# Altium schematic symbol library Schlib.SchLib: 34 symbols
Pins are listed as number, name and electrical type; pins without a type are passive.

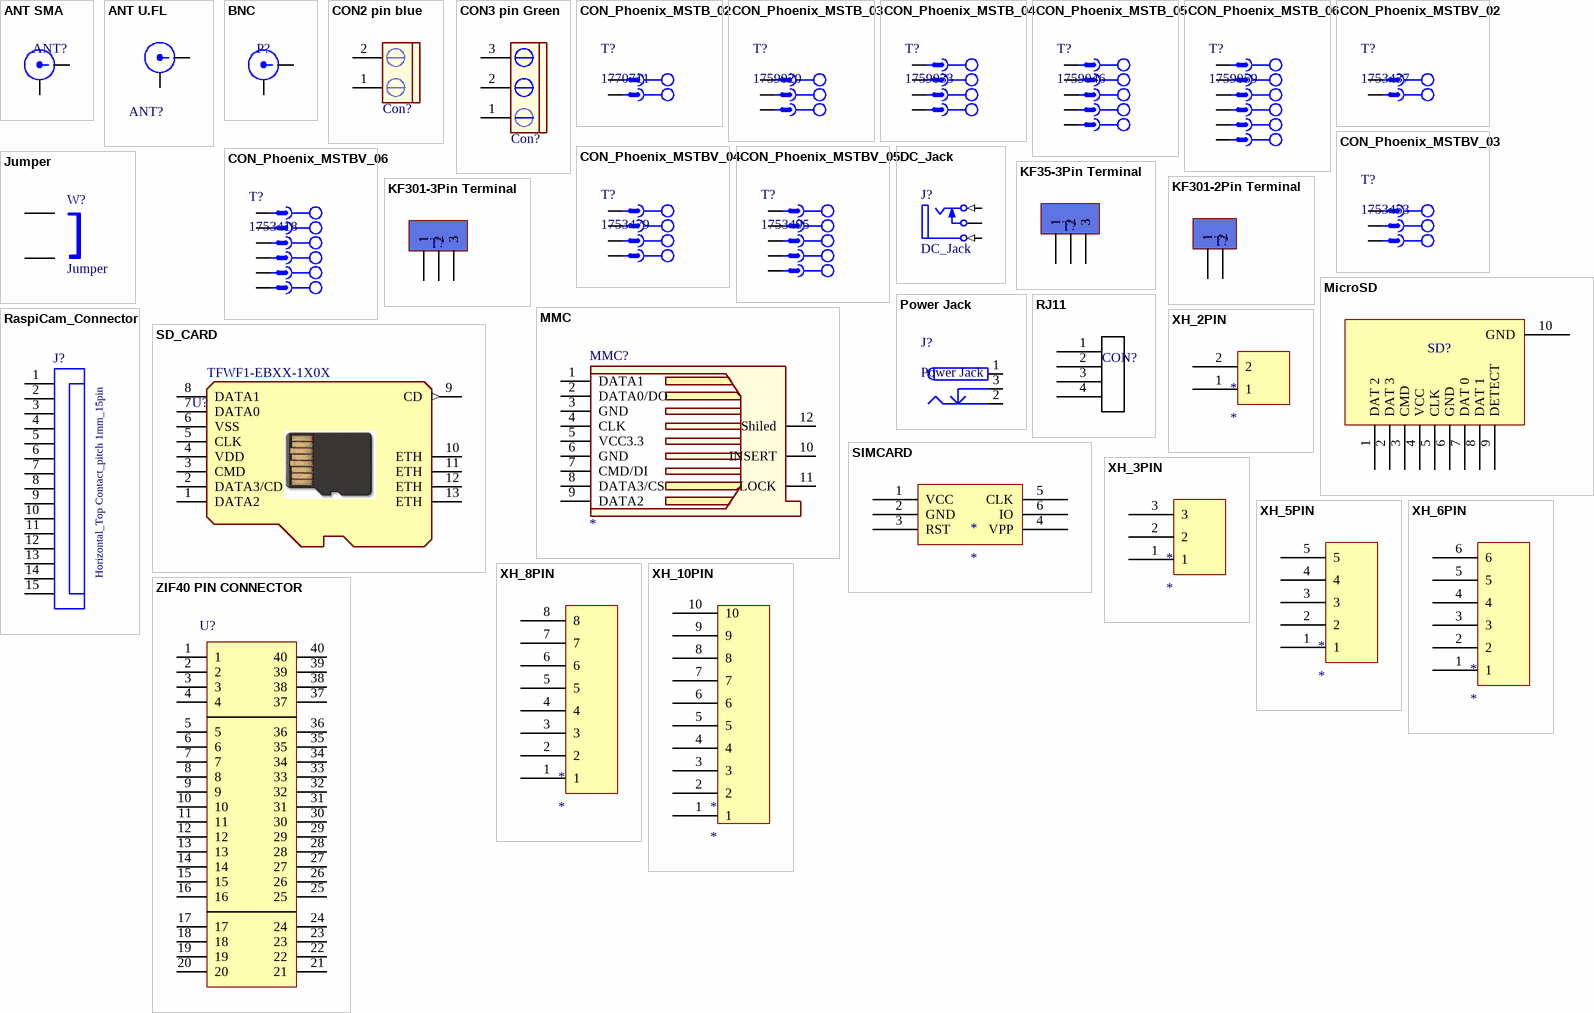
[diagram p0: symbols ANT SMA to ZIF40 PIN CONNECTOR]

## ANT SMA
designator ANT?, comment Antenna  (value not drawn)
Designer: Ali Hafizi
footprint SMA
pins: 1, 2

## ANT U.FL
designator ANT?  (value not drawn)
Antenna; Ali Hafizi: Ali Hafizi
footprint U.FL SMD
pins: 1, 2

## BNC
designator P?  (value not drawn)
BNC Socket, PCB Mounted; designer: Saeid Jorablo; Company: ACR; Signal Name: *; adding date: 2009-12-19
footprint BNC - Connector
footprint BNC - Complex
pins: 1, 2

## CON2 pin blue
designator Con?  (value not drawn)
Connector blue screw
footprint My_CN2
pins: 1, 2

## CON3 pin Green
designator Con?  (value not drawn)
Connector green screw
footprint My_CN3
pins: 1, 2, 3

## CON_Phoenix_MSTB_02
designator T?, comment 1770711
2 Pitch: 5.08 mm Color: green Contact surface: Tin Assembly; Manufacturer: PHOENIX CONTACT; Connector type: PCB Terminal Block; designer: ABBAS BASEREH; Max Current: 12 A; Positions: 2; Voltage: 320 V; Category: Connector; ComponentLink1Description: Header, Nominal current: 12 A Rated voltage (III/2): 320 V Number of positions: 2 Pitch: 5.08 mm Color: green Contact surface: Tin Assembly: Soldering  DESIGNER:ABBAS BASEREH; ComponentLink2Description: Reference; Mounting Technology: Through-Hole; Pin Count: 2; Revision 1: 2017-3-1; Status: Unreleased; PART.NO: 1770711
footprint MSTB 2,5/2-G-5,08 (Header, Nominal current: 12 A Rated voltage (III/2): 320 V Number of positions: 2 Pitch: 5.08 mm Color: green Contact surface: Tin Assembly: Soldering DESIGNER:ABBAS BASEREH)
pins: 1, 2

## CON_Phoenix_MSTB_03
designator T?, comment 1759020
3 Pitch: 5.08 mm Color: green Contact surface: Tin Assembly; Manufacturer: PHOENIX CONTACT; Connector type: PCB Terminal Block; designer: ABBAS BASEREH; Max Current: 12 A; Positions: 3; Voltage: 320 V; Category: Connector; ComponentLink1Description: Header, Nominal current: 12 A Rated voltage (III/2): 320 V Number of positions: 3 Pitch: 5.08 mm Color: green Contact surface: Tin Assembly: Soldering  DESIGNER:ABBAS BASEREH; ComponentLink2Description: Reference; Mounting Technology: Through-Hole; Pin Count: 3; Revision 1: 2017-3-1; Status: Unreleased; PART.NO: 1759020
footprint MSTB 2,5/3-G-5,08 (Header, Nominal current: 12 A Rated voltage (III/2): 320 V Number of positions: 3 Pitch: 5.08 mm Color: green Contact surface: Tin Assembly: Soldering  DESIGNER:ABBAS BASEREH)
pins: 1, 2, 3

## CON_Phoenix_MSTB_04
designator T?, comment 1759033
4 Pitch: 5.08 mm Color: green Contact surface: Tin Assembly; Manufacturer: PHOENIX CONTACT; Connector type: PCB Terminal Block; designer: ABBAS BASEREH; Max Current: 12 A; Positions: 4; Voltage: 320 V; Category: Connector; ComponentLink1Description: Header, Nominal current: 12 A Rated voltage (III/2): 320 V Number of positions: 4 Pitch: 5.08 mm Color: green Contact surface: Tin Assembly: Soldering  DESIGNER:ABBAS BASEREH; ComponentLink2Description: Reference; Mounting Technology: Through-Hole; Pin Count: 4; Revision 1: 2017-3-1; Status: Unreleased; PART.NO: 1759033
footprint MSTB 2,5/4-G-5,08 (Header, Nominal current: 12 A Rated voltage (III/2): 320 V Number of positions: 4 Pitch: 5,08 mm Color: green Contact surface: Tin Assembly: Soldering  DESIGNER ABBAS BASEREH)
pins: 1, 2, 3, 4

## CON_Phoenix_MSTB_05
designator T?, comment 1759046
5 Pitch: 5.08 mm Color: green Contact surface: Tin Assembly; Manufacturer: PHOENIX CONTACT; Connector type: PCB Terminal Block; designer: ABBAS BASEREH; Max Current: 12 A; Positions: 5; Voltage: 320 V; Category: Connector; ComponentLink1Description: Header, Nominal current: 12 A Rated voltage (III/2): 320 V Number of positions: 5 Pitch: 5.08 mm Color: green Contact surface: Tin Assembly: Soldering  DESIGNER:ABBAS BASEREH; ComponentLink2Description: Reference; Mounting Technology: Through-Hole; Pin Count: 5; Revision 1: 2017-3-1; Status: Unreleased; PART.NO: 1759046
footprint MSTB 2,5/5-G-5,08 (Header, Nominal current: 12 A Rated voltage (III/2): 320 V Number of positions: 5 Pitch: 5,08 mm Color: green Contact surface: Tin Assembly: Soldering  DESIGNER ABBAS BASEREH)
pins: 1, 2, 3, 4, 5

## CON_Phoenix_MSTB_06
designator T?, comment 1759059
6 Pitch: 5.08 mm Color: green Contact surface: Tin Assembly; Manufacturer: PHOENIX CONTACT; Connector type: PCB Terminal Block; designer: ABBAS BASEREH; Max Current: 12 A; Positions: 6; Voltage: 320 V; Category: Connector; ComponentLink1Description: Header, Nominal current: 12 A Rated voltage (III/2): 320 V Number of positions: 6 Pitch: 5.08 mm Color: green Contact surface: Tin Assembly: Soldering  DESIGNER:ABBAS BASEREH; ComponentLink2Description: Reference; Mounting Technology: Through-Hole; Pin Count: 6; Revision 1: 2017-3-1; Status: Unreleased; PART.NO: 1759059
footprint MSTB 2,5/6-G-5,08 (Header, Nominal current: 12 A Rated voltage (III/2): 320 V Number of positions: 6 Pitch: 5,08 mm Color: green Contact surface: Tin Assembly: Soldering  DESIGNER ABBAS BASEREH)
pins: 1, 2, 3, 4, 5, 6

## CON_Phoenix_MSTBV_02
designator T?, comment 1753437
2 Pitch: 5 mm Color: green Contact surface: Tin Assembly; Manufacturer: PHOENIX CONTACT; Connector type: PCB Terminal Block; designer: ABBAS BASEREH; Max Current: 12 A; Positions: 2; Voltage: 320 V; Category: Connector; ComponentLink1Description: Header, Nominal current: 12 A Rated voltage (III/2): 320 V Number of positions: 2 Pitch: 5 mm Color: green Contact surface: Tin Assembly: Soldering  DESIGNER:ABBAS BASEREH; ComponentLink2Description: Reference; Mounting Technology: Through-Hole; Pin Count: 2; Revision 1: 2017-3-1; Status: Unreleased; PART.NO: 1753437
signal-integrity model CON-2P (CON-PHOENIX)
footprint SD_CARD (T-FLASH PUSH-PUSH)
pins: 1, 2

## CON_Phoenix_MSTBV_03
designator T?, comment 1753453
3 Pitch: 5 mm Color: green Contact surface: Tin Assembly; Manufacturer: PHOENIX CONTACT; Connector type: PCB Terminal Block; designer: ABBAS BASEREH; Max Current: 12 A; Positions: 3; Voltage: 320 V; Category: Connector; ComponentLink1Description: Header, Nominal current: 12 A Rated voltage (III/2): 320 V Number of positions: 3 Pitch: 5 mm Color: green Contact surface: Tin Assembly: Soldering  DESIGNER:ABBAS BASEREH; ComponentLink2Description: Reference; Mounting Technology: Through-Hole; Pin Count: 3; Revision 1: 2017-3-1; Status: Unreleased; PART.NO: 1753453
signal-integrity model CON-3P (CON-PHOENIX)
footprint MSTBV 2,5/3-G-5 (Header, Nominal current: 12 A Rated voltage (III/2): 320 V Number of positions: 3 Pitch: 5mm Color: green Contact surface: Tin Assembly: Soldering  DESIGNER:ABBAS BASEREH)
pins: 1, 2, 3

## CON_Phoenix_MSTBV_04
designator T?, comment 1753479
4 Pitch: 5 mm Color: green Contact surface: Tin Assembly; Manufacturer: PHOENIX CONTACT; Connector type: PCB Terminal Block; designer: ABBAS BASEREH; Max Current: 12 A; Positions: 4; Voltage: 320 V; Category: Connector; ComponentLink1Description: Header, Nominal current: 12 A Rated voltage (III/2): 320 V Number of positions: 4 Pitch: 5 mm Color: green Contact surface: Tin Assembly: Soldering  DESIGNER:ABBAS BASEREH; ComponentLink2Description: Reference; Mounting Technology: Through-Hole; Pin Count: 4; Revision 1: 2017-3-1; Status: Unreleased; PART.NO: 1753479
signal-integrity model CON-4P (CON-PHOENIX)
footprint MSTBV 2,5/4-G-5 (Header, Nominal current: 12 A Rated voltage (III/2): 320 V Number of positions: 4 Pitch: 5mm Color: green Contact surface: Tin Assembly: Soldering  DESIGNER ABBAS BASEREH)
pins: 1, 2, 3, 4

## CON_Phoenix_MSTBV_05
designator T?, comment 1753495
5 Pitch: 5 mm Color: green Contact surface: Tin Assembly; Manufacturer: PHOENIX CONTACT; Connector type: PCB Terminal Block; designer: ABBAS BASEREH; Max Current: 12 A; Positions: 5; Voltage: 320 V; Category: Connector; ComponentLink1Description: Header, Nominal current: 12 A Rated voltage (III/2): 320 V Number of positions: 5 Pitch: 5 mm Color: green Contact surface: Tin Assembly: Soldering  DESIGNER:ABBAS BASEREH; ComponentLink2Description: Reference; Mounting Technology: Through-Hole; Pin Count: 5; Revision 1: 2017-3-1; Status: Unreleased; PART.NO: 1753495
signal-integrity model CON-5P (CON-PHOENIX)
footprint MSTBV 2,5/5-G-5 (Header, Nominal current: 12 A Rated voltage (III/2): 320 V Number of positions: 5 Pitch: 5mm Color: green Contact surface: Tin Assembly: Soldering  DESIGNER ABBAS BASEREH)
pins: 1, 2, 3, 4, 5

## CON_Phoenix_MSTBV_06
designator T?, comment 1753418
6 Pitch: 5 mm Color: green Contact surface: Tin Assembly; Manufacturer: PHOENIX CONTACT; Connector type: PCB Terminal Block; designer: ABBAS BASEREH; Max Current: 12 A; Positions: 6; Voltage: 320 V; Category: Connector; ComponentLink1Description: Header, Nominal current: 12 A Rated voltage (III/2): 320 V Number of positions: 6 Pitch: 5 mm Color: green Contact surface: Tin Assembly: Soldering  DESIGNER:ABBAS BASEREH; ComponentLink2Description: Reference; Mounting Technology: Through-Hole; Pin Count: 6; Revision 1: 2017-3-1; Status: Unreleased; PART.NO: 1753418
signal-integrity model CON-6P (CON-PHOENIX)
footprint MSTBV 2,5/6-G-5 (Header, Nominal current: 12 A Rated voltage (III/2): 320 V Number of positions: 6 Pitch: 5mm Color: green Contact surface: Tin Assembly: Soldering  DESIGNER ABBAS BASEREH)
pins: 1, 2, 3, 4, 5, 6

## DC_Jack
designator J?
PackageDocument: 2003; PCB_Layout: Complies with manufacturer's recommendation.; DrillAndSlotSize: Corresponds to nominal value.; LatestRevisionDate: 15-Jul-2004; LatestRevisionNote: Component Replaced & renamed from "Phonejack".; DatasheetDocument: 2003; PackageReference: S1VS_SNB; Publisher: Altium Limited; ComponentLink1Description: Manufacturer Link; ComponentLink1URL: http://www.cliffuk.co.uk/
footprint My_DC_Jack
pins: 1 T (in) "Tip", 2 TN "Tip Normal (Break Contact)", 3 S (in) "Sleeve (Ground)"

## Jumper
designator W?
Jumper Wire; Manufacturer: Generic Components; Published: 1999
footprint My_IDC-2
pins: 1, 2

## KF35-3Pin Terminal
designator T?  (value not drawn)
Terminal 3 Pin 250VAC 16A; Part. No: KF35 3P; Designer: Abbas Basereh; Link: https://www.aliexpress.com/item/
footprint KF35 3PIN (Designer Abbas Basereh)
pins: 1, 2, 3

## KF301-2Pin Terminal
designator T?  (value not drawn)
Terminal 2 Pin 250VAC 16A; Part. No: KF301 2P; Designer: Abbas Basereh; Link: https://www.aliexpress.com/item/
footprint KF301 2PIN (Designer Abbas Basereh)
pins: 1, 2

## KF301-3Pin Terminal
designator T?  (value not drawn)
Terminal 3 Pin 250VAC 16A; Part. No: KF301 3P; Designer: Abbas Basereh; Link: https://www.aliexpress.com/item/
footprint KF301 3PIN (Designer Abbas Basereh)
pins: 1, 2, 3

## MicroSD
designator SD?
footprint _MicroSD
pins: 1 DAT 2, 2 DAT 3, 3 CMD, 4 VCC, 5 CLK, 6 GND, 7 DAT 0, 8 DAT 1, 9 DETECT, 10 GND

## MMC
designator MMC?
MMC/SD Card
footprint MY_MMC
footprint MY_SD-MMC_SOCKET-PP
pins: 1 DATA1, 2 DATA0/DO, 3 GND, 4 CLK, 5 VCC3.3, 6 GND, 7 CMD/DI, 8 DATA3/CS, 9 DATA2, 10 INSERT, 11 LOCK, 12 Shiled

## Power Jack
designator J?
Designer: Saeid Jorablo; Company: Personal; Project Name: Laser; Adding Date: 10/21/2009
footprint _Power Jack (Power Adaptor Jack)
pins: 1 (power), 2 (power), 3 (power)

## RaspiCam_Connector
designator J?, comment Horizontal_Top Contact_pitch 1mm_15pin
ZIF Connectors WR-FPC, Horizontal, Top Contact, pitch 1mm, 15pin; Part Number: 68611514122; Rated Current: 1A; Pin Number: 15; Contact Resistance: 20mOhm; ComponentLink1Description: Manufacturer; ComponentLink1URL: http://www.we-online.de; ComponentLink2Description: Datasheet; ComponentLink2URL: http://katalog.we-online.de/em/datasheet/68611514122.pdf; Published Date: Jan. 2018; Publisher: Wurth Elektronik; Pitch: 1mm; Operating Temperature: -25 to 85 degC; Mounting Technology: SMT; Orientation: Horizontal; Contact Design: Top Contact
footprint 68611514122
pins: 1, 2, 3, 4, 5, 6, 7, 8, 9, 10, 11, 12, 13, 14, 15

## RJ11
designator CON?  (value not drawn)
footprint _PhoneJack_Line
pins: 1, 2, 3, 4

## SD_CARD
designator U?, comment TFWF1-EBXX-1X0X
T-Flash 8pin SMT; Manufacturer: Wellco T&C Co., Ltd.; Link to Datasheet: *; Link to Picture: *; Operating Temp: *; Rating: *; Stability Frequency: *; Storage Temp: *; Tolerance: *; ComponentLink1Description: *; ComponentLink1URL: *; Manufacture Part #: TFWF1-EBXX-1X0X; Value: TFWF1-EBXX-1X0X
footprint SD_CARD (T-FLASH PUSH-PUSH)
pins: 1 DATA2, 2 DATA3/CD, 3 CMD, 4 VDD, 5 CLK, 6 VSS, 7 DATA0, 8 DATA1, 9 CD (out), 10 ETH, 11 ETH, 12 ETH, 13 ETH
text: Card Bottom View

## SIMCARD
designator *
footprint _SimCard1
pins: 1 VCC, 2 GND, 3 RST, 4 VPP, 5 CLK, 6 IO

## XH_2PIN
designator *
footprint XH_2PIN
pins: 1, 2

## XH_3PIN
designator *
footprint XH_3PIN
pins: 1, 2, 3

## XH_5PIN
designator *
footprint XH_5PIN
pins: 1, 2, 3, 4, 5

## XH_6PIN
designator *
footprint XH_6PIN
pins: 1, 2, 3, 4, 5, 6

## XH_8PIN
designator *
footprint XH_8PIN
pins: 1, 2, 3, 4, 5, 6, 7, 8

## XH_10PIN
designator *
footprint XH_10PIN
pins: 1, 2, 3, 4, 5, 6, 7, 8, 9, 10

## ZIF40 PIN CONNECTOR
designator U?  (value not drawn)
40pin Zip/Zif Socket; Manufacturer: CHINA; designer: ABBAS BASEREH; Max Current: mA; Mounting Technology: Through-Hole; Category: Connector; Pin Count: 40 PIN; Publisher: ABBAS BASEREH; Status: Unreleased; ComponentLink1Description: Datasheet; ComponentLink2Description: Reference; Update: 1395-11-17
footprint DIP40 - Zip Socket (Footprint not found)
pins: 1, 2, 3, 4, 5, 6, 7, 8, 9, 10, 11, 12, 13, 14, 15, 16, 17, 18, 19, 20, 21, 22, 23, 24, 25, 26, 27, 28, 29, 30, 31, 32, 33, 34, 35, 36, 37, 38, 39, 40